# EAGLE library part 6250XX22323_62501422323 (library 61201021621_Eagle_WR-BHD_rev19b)
WR-BHD 2.00 mm Board to Cable Transition Connector KIND PROPERTIES: Pitch 2 mm Gender:Transition MATERIAL PROPERTIES: Insulator Material:PBT Insulator Flammability Rating UL94 V-0 Insulator Color:Black Contact Material :Copper Alloy Contact Plating :Gold Contact Type: Stamped GENERAL INFORMATION: Operating Temperature:-40 °C up to +125 °C Compliance:RoHS Working Voltage: 250 V (AC) Withstanding Voltage:500 V (AC) Contact Resistance: 20 mΩ Insulation Resistance:1000 MΩ CERTIFICATION UL Approval：E323964 PACKAGING PROPERTIES Packaging :Tray <https://katalog.we-online.com/media/images/v2/o32943v209%20Family_WR-BHD_6250xx22323.jpg> Details see: https://katalog.we-online.com/en/em/BHD_2_00_BOARD_TO_CAB_TRANSITION_CONNECTOR_6250XX22323 Updated by Yingchun,Shan 2019-11-04 2019 (C) Würth Elektronik
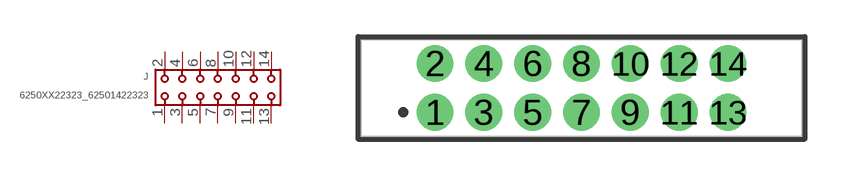
[diagram p152: symbol with the pads of 62501422323; footprint 62501422323]

Designator prefix J

## 6250XX22323_62501422323 (CONTACT-RESISTANCE: 20mOhm; DATASHEET-URL: https://katalog.we-online.com/em/datasheet/62501422323.pdf; GENDER: Transition; IR: 1A; L: 18.1mm; MATES: WR-BHD IDC Press &Tools:600625282804/WR-CAB 1.0mm Ribbon Flat Cable/WR-CAB 1.0mm Ribbon Flat Cable 1m pieces; PACKAGING: Tray; PART-NUMBER: 62501422323; PINS: 14; PITCH: 2mm; TOL-R: max.; WORKING-VOLTAGE: 250V(AC))  [62501422323]
1  1  pas
2  2  pas
3  3  pas
4  4  pas
5  5  pas
6  6  pas
7  7  pas
8  8  pas
9  9  pas
10  10  pas
11  11  pas
12  12  pas
13  13  pas
14  14  pas

## Footprint 62501422323 (pad centres in mm)
WR-BHD 2.00 mm Board to Cable Transition Connector, 14 pins
drill 1: 1 -6,-1; 2 -6,1; 3 -4,-1; 4 -4,1; 5 -2,-1; 6 -2,1; 7 0,-1; 8 0,1; 9 2,-1; 10 2,1; 11 4,-1; 12 4,1; 13 6,-1; 14 6,1